# Altium schematic symbol library Passives.SchLib: 279 symbols (part 8 of 10)
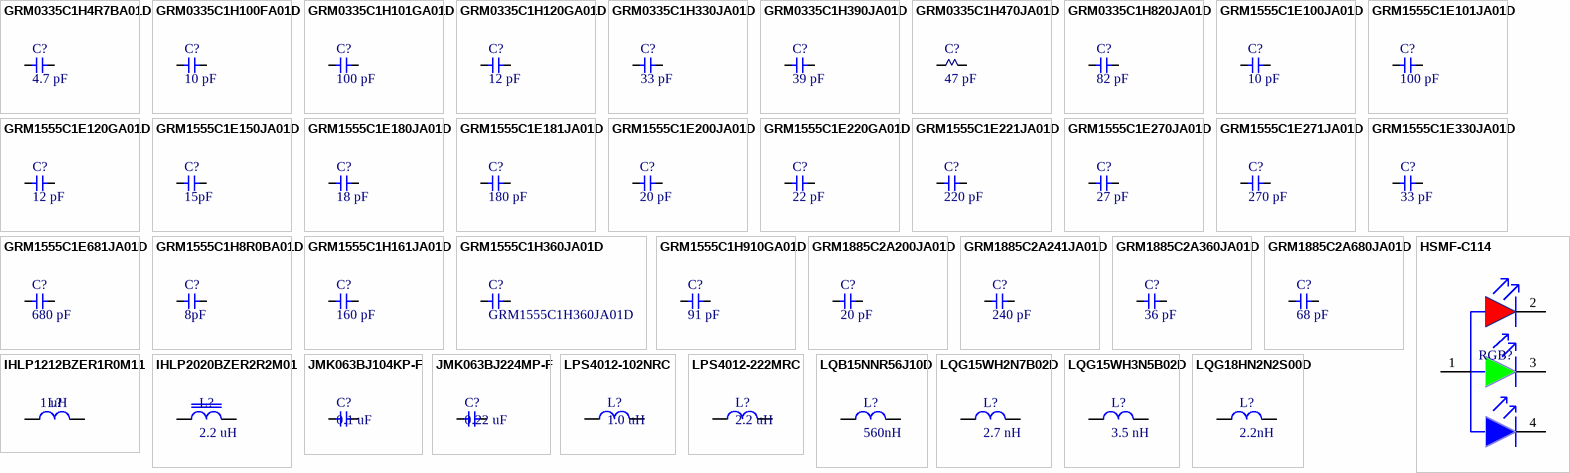
[diagram p14: symbols GRM0335C1H4R7BA01D to LQG18HN2N2S00D]

## GRM1555C1E220GA01D
designator C?, comment 22 pF
CAP CER 22PF 25V NP0 0402; Manufacturer: Murata Electronics North America; Manufacturer Part Number: GRM1555C1E220GA01D; Tolerance: ±2%; Temperature Coefficient: C0G, NP0; Supplier 1: Digi-Key; RoHS: RoHS Compliant; Category: Capacitors; Stock 1: 164846; Pricing 1: 1=0.1, 10=0.043, 50=0.0234, 100=0.0198, 250=0.0162, 500=0.01386, 1000=0.0108, 5000=0.009 (USD); Packaging: Digi-Reel®; Part Status: Active; Capacitance: 22pF; Voltage - Rated: 25V; Operating Temperature: -55°C ~ 125°C; Features: -; Ratings: -; Applications: General Purpose; Mounting Type: Surface Mount, MLCC; Package / Case: 0402 (1005 Metric); Size / Dimension: 0.039" L x 0.020" W (1.00mm x 0.50mm); Height - Seated (Max): -; Thickness (Max): 0.022" (0.55mm); Lead Spacing: -; Lead Style: -; ComponentLink1URL: http://www.murata.com/~/media/webrenewal/support/library/catalog/products/capacitor/mlcc/c02e.ashx; ComponentLink1Description: http://www.murata.com/~/media/webrenewal/support/library/catalog/products/capacitor/mlcc/c02e.ashx; Supplier Part Number 1: 490-8173-6-ND; Value: 22 pF
footprint CAPC1005X05N (Chip Capacitor, 2-Leads, Body 1.00x0.50mm, IPC Medium Density)
signal-integrity model Model Name (Model Description)
pins: 1, 2

## GRM1555C1E221JA01D
designator C?, comment 220 pF
CAP CER 220PF 25V C0G/NP0 0402; Manufacturer: Murata Electronics North America; Manufacturer Part Number: GRM1555C1E221JA01D; Tolerance: ±5%; Temperature Coefficient: C0G, NP0; Notification: Current market demand for these product types have resulted in fluctuating and extending lead times. Lead times may differ.; Supplier 1: Digi-Key; RoHS: RoHS Compliant; Category: Capacitors; Stock: 1677; Pricing: 1=0.1, 10=0.062, 100=0.0275, 500=0.01964, 1000=0.01543, 2500=0.01403, 5000=0.01291 (USD); Packaging: Digi-Reel®; Part Status: Active; Voltage - Rated: 25V; Operating Temperature: -55°C ~ 125°C; Features: -; Ratings: -; Applications: General Purpose; Mounting Type: Surface Mount, MLCC; Package / Case: 0402 (1005 Metric); Size / Dimension: 0.039" L x 0.020" W (1.00mm x 0.50mm); Height - Seated (Max): -; Thickness (Max): 0.022" (0.55mm); Lead Spacing: -; Lead Style: -; ComponentLink1URL: https://www.murata.com/~/media/webrenewal/support/library/catalog/products/capacitor/mlcc/c02e.ashx; ComponentLink1Description: https://www.murata.com/~/media/webrenewal/support/library/catalog/products/capacitor/mlcc/c02e.ashx; Supplier Part Number 1: 490-8174-6-ND; Value: 220 pF
footprint CAPC1005X05N (Chip Capacitor, 2-Leads, Body 1.00x0.50mm, IPC Medium Density)
pins: 1, 2

## GRM1555C1E270JA01D
designator C?, comment 27 pF
CAP CER 27PF 25V C0G/NP0 0402; Manufacturer: Murata Electronics North America; Manufacturer Part Number: GRM1555C1E270JA01D; Tolerance: ±5%; Temperature Coefficient: C0G, NP0; Notification: Current market demand for these product types have resulted in fluctuating and extending lead times. Lead times may differ.; Supplier 1: Digi-Key; RoHS: RoHS Compliant; Category: Capacitors; Stock: 40634; Pricing: 1=0.1, 10=0.036, 100=0.0162, 500=0.0116, 1000=0.00911, 2500=0.00828, 5000=0.00762 (USD); Packaging: Digi-Reel®; Part Status: Active; Voltage - Rated: 25V; Operating Temperature: -55°C ~ 125°C; Features: -; Ratings: -; Applications: General Purpose; Mounting Type: Surface Mount, MLCC; Package / Case: 0402 (1005 Metric); Size / Dimension: 0.039" L x 0.020" W (1.00mm x 0.50mm); Height - Seated (Max): -; Thickness (Max): 0.022" (0.55mm); Lead Spacing: -; Lead Style: -; ComponentLink1URL: https://www.murata.com/~/media/webrenewal/support/library/catalog/products/capacitor/mlcc/c02e.ashx; ComponentLink1Description: https://www.murata.com/~/media/webrenewal/support/library/catalog/products/capacitor/mlcc/c02e.ashx; Supplier Part Number 1: 490-6176-6-ND; Value: 27 pF
footprint CAPC1005X05N (Chip Capacitor, 2-Leads, Body 1.00x0.50mm, IPC Medium Density)
pins: 1, 2

## GRM1555C1E271JA01D
designator C?, comment 270 pF
CAP CER 270PF 25V C0G/NP0 0402; Manufacturer: Murata Electronics North America; Manufacturer Part Number: GRM1555C1E271JA01D; Tolerance: ±5%; Temperature Coefficient: C0G, NP0; Notification: Current market demand for these product types have resulted in fluctuating and extending lead times. Lead times may differ.; Supplier 1: Digi-Key; RoHS: RoHS Compliant; Category: Capacitors; Stock: 20536; Pricing: 1=0.13, 10=0.092, 100=0.0409, 500=0.02918, 1000=0.02293, 2500=0.02084, 5000=0.01918 (USD); Packaging: Digi-Reel®; Part Status: Active; Voltage - Rated: 25V; Operating Temperature: -55°C ~ 125°C; Features: -; Ratings: -; Applications: General Purpose; Mounting Type: Surface Mount, MLCC; Package / Case: 0402 (1005 Metric); Size / Dimension: 0.039" L x 0.020" W (1.00mm x 0.50mm); Height - Seated (Max): -; Thickness (Max): 0.022" (0.55mm); Lead Spacing: -; Lead Style: -; ComponentLink1URL: https://www.murata.com/~/media/webrenewal/support/library/catalog/products/capacitor/mlcc/c02e.ashx; ComponentLink1Description: https://www.murata.com/~/media/webrenewal/support/library/catalog/products/capacitor/mlcc/c02e.ashx; Supplier Part Number 1: 490-11365-6-ND; Value: 270 pF
footprint CAPC1005X05N (Chip Capacitor, 2-Leads, Body 1.00x0.50mm, IPC Medium Density)
pins: 1, 2

## GRM1555C1E330JA01D
designator C?, comment 33 pF
CAP CER 33PF 25V NP0 0402; Manufacturer: Murata Electronics North America; Manufacturer Part Number: GRM1555C1E330JA01D; Tolerance: ±5%; Temperature Coefficient: C0G, NP0; Supplier 1: Digi-Key; RoHS: RoHS Compliant; Category: Capacitors; Stock 1: 366356; Pricing 1: 1=0.1, 10=0.028, 50=0.015, 100=0.0127, 250=0.01036, 500=0.00886, 1000=0.0069, 5000=0.00575 (USD); Packaging: Digi-Reel®; Part Status: Active; Capacitance: 33pF; Voltage - Rated: 25V; Operating Temperature: -55°C ~ 125°C; Features: -; Ratings: -; Applications: General Purpose; Mounting Type: Surface Mount, MLCC; Package / Case: 0402 (1005 Metric); Size / Dimension: 0.039" L x 0.020" W (1.00mm x 0.50mm); Height - Seated (Max): -; Thickness (Max): 0.022" (0.55mm); Lead Spacing: -; Lead Style: -; ComponentLink1URL: http://www.murata.com/~/media/webrenewal/support/library/catalog/products/capacitor/mlcc/c02e.ashx; ComponentLink1Description: http://www.murata.com/~/media/webrenewal/support/library/catalog/products/capacitor/mlcc/c02e.ashx; Supplier Part Number 1: 490-6177-6-ND; Value: 33 pF
signal-integrity model Model Name (Model Description)
footprint CAPC1005X05N (Chip Capacitor, 2-Leads, Body 1.00x0.50mm, IPC Medium Density)
pins: 1, 2

## GRM1555C1E681JA01D
designator C?, comment 680 pF
CAP CER 680PF 25V C0G/NP0 0402; Manufacturer: Murata Electronics North America; Manufacturer Part Number: GRM1555C1E681JA01D; Tolerance: ±5%; Temperature Coefficient: C0G, NP0; Notification: Current market demand for these product types have resulted in fluctuating and extending lead times. Lead times may differ.; Supplier 1: Digi-Key; RoHS: RoHS Compliant; Category: Capacitors; Stock: 111030; Pricing: 1=0.13, 10=0.097, 100=0.043, 500=0.03072, 1000=0.02413, 2500=0.02194, 5000=0.02018 (USD); Packaging: Digi-Reel®; Part Status: Active; Voltage - Rated: 25V; Operating Temperature: -55°C ~ 125°C; Features: -; Ratings: -; Applications: General Purpose; Mounting Type: Surface Mount, MLCC; Package / Case: 0402 (1005 Metric); Size / Dimension: 0.039" L x 0.020" W (1.00mm x 0.50mm); Height - Seated (Max): -; Thickness (Max): 0.022" (0.55mm); Lead Spacing: -; Lead Style: -; ComponentLink1URL: https://www.murata.com/~/media/webrenewal/support/library/catalog/products/capacitor/mlcc/c02e.ashx; ComponentLink1Description: https://www.murata.com/~/media/webrenewal/support/library/catalog/products/capacitor/mlcc/c02e.ashx; Supplier Part Number 1: 490-6182-6-ND; Value: 680 pF
footprint CAPC1005X05N (Chip Capacitor, 2-Leads, Body 1.00x0.50mm, IPC Medium Density)
pins: 1, 2

## GRM1555C1H8R0BA01D
designator C?, comment 8pF
Multilayer Ceramic Capacitors MLCC - SMD/SMT 0402 8.0pF 50volts C0G +/-0.05pF; Manufacturer: Murata; Manufacturer Part Number: GRM1555C1H8R0BA01D; Voltage Rating: 50V; Supplier: Digi-Key; Supplier Part Number: 490-8230-1-ND; RoHS: Yes; Category: Ceramic Capacitors; Stock: 671988; Pricing: 1=0,1, 10=0,051, 50=0,0278, 100=0,0227, 500=0,01624, 1000=0,01276, 2500=0,0116, 5000=0,01067 (USD); Mounting Technology: Surface Mount; Case/Package: 0402; Case Code (Metric): 1005; Case Code (Imperial): 0402; Min Operating Temperature: -55°C; Max Operating Temperature: 125°C; Value: 8pF; Package Quantity: 1; Packaging: Tape and Reel; Series: GRM; Termination: SMD/SMT; Voltage Rating (DC): 50V; Dielectric: C0G; Construction: Flat; Length: 1mm; Width: 0.02inch; Height: 0.5mm; Thickness: 0.022inch; Depth: 0.5mm; Radiation Hardening: No; RoHS Compliant: Yes; Lead Free: Lead Free; ComponentLink1URL: https://datasheet.ciiva.com/18184/getdatasheetpartid-319021-18184500.pdf?src-supplier=Verical; ComponentLink1Description: https://datasheet.ciiva.com/18184/getdatasheetpartid-319021-18184500.pdf?src-supplier=Verical; ComponentLink2URL: https://datasheet.ciiva.com/6263/grm1555c1h820ga01-01-6263780.pdf?src-supplier=Digi-Key; ComponentLink2Description: https://datasheet.ciiva.com/6263/grm1555c1h820ga01-01-6263780.pdf?src-supplier=Digi-Key; ComponentLink3URL: https://datasheet.ciiva.com/5432/product-5432205.pdf?src-supplier=Mouser; ComponentLink3Description: https://datasheet.ciiva.com/5432/product-5432205.pdf?src-supplier=Mouser; ComponentLink4URL: https://datasheet.ciiva.com/11610/product-11610151.pdf?src-supplier=Avnet; ComponentLink4Description: https://datasheet.ciiva.com/11610/product-11610151.pdf?src-supplier=Avnet; ComponentLink5URL: https://datasheet.ciiva.com/16495/c02e-16495287.pdf?src-supplier=Future+Electronics; ComponentLink5Description: https://datasheet.ciiva.com/16495/c02e-16495287.pdf?src-supplier=Future+Electronics; ComponentLink6URL: https://datasheet.ciiva.com/5442/product-5442458.pdf?src-supplier=Mouser; ComponentLink6Description: https://datasheet.ciiva.com/5442/product-5442458.pdf?src-supplier=Mouser; Supplier 1: Mouser; Supplier Part Number 1: 81-GRM1555C1H8R0BA1D; Supplier 2: Digikey; Supplier Part Number 2: 490-8230-1-ND; Supplier 3: Digikey; Supplier Part Number 3: 490-8230-6-ND
footprint CAPC1005X05N (Chip Capacitor, 2-Leads, Body 1.00x0.50mm, IPC Medium Density)
pins: 1, 2

## GRM1555C1H161JA01D
designator C?, comment 160 pF
CAP CER 160PF 50V C0G/NP0 0402; Manufacturer: Murata; Manufacturer Part Number: GRM1555C1H161JA01D; Supplier: Arrow Electronics; Supplier Part Number: GRM1555C1H161JA01D; RoHS: Yes; Category: Ceramic Capacitors; Stock: 35570; Pricing: 1=0,0886, 10=0,036, 25=0,0342, 100=0,021, 250=0,0208, 500=0,0197, 1000=0,014, 3000=0,0133, 6000=0,0107, 15000=0,0106, 30000=0,0096 (USD); ComponentLink1URL: https://datasheet.ciiva.com/132/product-132086.pdf?src-supplier=Digi-Key; ComponentLink1Description: https://datasheet.ciiva.com/132/product-132086.pdf?src-supplier=Digi-Key; ComponentLink2URL: https://datasheet.ciiva.com/132/partnumbering-e-01-132087.pdf?src-supplier=Digi-Key; ComponentLink2Description: https://datasheet.ciiva.com/132/partnumbering-e-01-132087.pdf?src-supplier=Digi-Key; ComponentLink3URL: https://datasheet.ciiva.com/132/partnumbering-e-01-132088.pdf?src-supplier=Digi-Key; ComponentLink3Description: https://datasheet.ciiva.com/132/partnumbering-e-01-132088.pdf?src-supplier=Digi-Key; ComponentLink4URL: https://datasheet.ciiva.com/11463/product-11463834.pdf?src-supplier=Avnet; ComponentLink4Description: https://datasheet.ciiva.com/11463/product-11463834.pdf?src-supplier=Avnet; Supplier 1: Arrow Electronics; Supplier Part Number 1: GRM1555C1H161JA01D; Value: 160 pF
footprint CAPC1005X05N (Chip Capacitor, 2-Leads, Body 1.00x0.50mm, IPC Medium Density)
pins: 1, 2

## GRM1555C1H360JA01D
designator C?
CAP CER 36PF 50V C0G/NP0 0402; Manufacturer: Murata; Supplier: Digi-Key; Supplier Part Number: 490-5937-1-ND; Manufacturer Part Number: GRM1555C1H360JA01D; RoHS: Yes; Category: Ceramic Capacitors; Stock: 136514; Pricing: 1=0,1, 10=0,055, 50=0,03, 100=0,0245, 500=0,01752, 1000=0,01376, 2500=0,01251, 5000=0,01151 (USD); ComponentLink1URL: https://datasheet.ciiva.com/11606/product-11606604.pdf?src-supplier=Avnet; ComponentLink1Description: https://datasheet.ciiva.com/11606/product-11606604.pdf?src-supplier=Avnet; ComponentLink2URL: https://datasheet.ciiva.com/6263/partnumbering-e-01-6263915.pdf?src-supplier=Digi-Key; ComponentLink2Description: https://datasheet.ciiva.com/6263/partnumbering-e-01-6263915.pdf?src-supplier=Digi-Key; ComponentLink3URL: https://datasheet.ciiva.com/6263/partnumbering-e-01-6263917.pdf?src-supplier=Digi-Key; ComponentLink3Description: https://datasheet.ciiva.com/6263/partnumbering-e-01-6263917.pdf?src-supplier=Digi-Key; ComponentLink4URL: https://datasheet.ciiva.com/6263/partnumbering-e-01-6263919.pdf?src-supplier=Digi-Key; ComponentLink4Description: https://datasheet.ciiva.com/6263/partnumbering-e-01-6263919.pdf?src-supplier=Digi-Key; Supplier 1: Digi-Key; Supplier Part Number 1: 490-5937-1-ND; Value: 36 pF
footprint CAPC1005X05N (Chip Capacitor, 2-Leads, Body 1.00x0.50mm, IPC Medium Density)
pins: 1, 2

## GRM1555C1H910GA01D
designator C?, comment 91 pF
Multilayer Ceramic Capacitors MLCC - SMD/SMT 0402 91pF 50volts C0G 2%; Manufacturer: Murata; Manufacturer Part Number: GRM1555C1H910GA01D; Voltage Rating: 50V; Supplier 1: Digi-Key; Supplier Part Number 1: 490-11408-1-ND; Stock 1: 26252; Pricing 1: 1 = 0.12000, 10 = 0.08600, 100 = 0.04050, 500 = 0.02842, 1000 = 0.02353, 2500 = 0.02190, 5000 = 0.02004 (USD); RoHS: Yes; Mount: Surface Mount; Case/Package: 0402; Case Code (Metric): 1005; Case Code (Imperial): 0402; Min Operating Temperature: -55°C; Max Operating Temperature: 125°C; Capacitance: 91pF; Tolerance: 2%; Packaging: Tape and Reel; Package Quantity: 10000; Dielectric: C0G; Voltage Rating (DC): 50V; Termination: SMD/SMT; Length: 1mm; Height: 0.5mm; Width: 0.02inch; Thickness: 0.022inch; Depth: 0.5mm; Radiation Hardening: No; ComponentLink1URL: https://datasheet.ciiva.com/11617/product-11617893.pdf?src-supplier=Avnet; ComponentLink1Description: https://datasheet.ciiva.com/11617/product-11617893.pdf?src-supplier=Avnet; ComponentLink2URL: https://datasheet.ciiva.com/6270/grm1555c1h8r5wa01-01-6270700.pdf?src-supplier=Digi-Key; ComponentLink2Description: https://datasheet.ciiva.com/6270/grm1555c1h8r5wa01-01-6270700.pdf?src-supplier=Digi-Key; Value: 91 pF
footprint CAPC1005X05N (Chip Capacitor, 2-Leads, Body 1.00x0.50mm, IPC Medium Density)
pins: 1, 2

## GRM1885C2A200JA01D
designator C?, comment 20 pF
Cap Ceramic 20pF 100V C0G 5% SMD 0603 125C Paper T/R; Manufacturer: Murata; Manufacturer Part Number: GRM1885C2A200JA01D; Supplier: Mouser; Supplier Part Number: 81-GRM1885C2A200JA1D; RoHS: Yes; Category: Ceramic Capacitors; Stock: 37198; Pricing: 1=0.11, 10=0.052, 50=0.052, 100=0.031, 1000=0.023, 10000=0.017 (USD); ComponentLink1URL: https://datasheet.ciiva.com/132/product-132944.pdf?src-supplier=Digikey; ComponentLink1Description: https://datasheet.ciiva.com/132/product-132944.pdf?src-supplier=Digikey; ComponentLink2URL: https://datasheet.ciiva.com/132/partnumbering-e-01-132943.pdf?src-supplier=Digikey; ComponentLink2Description: https://datasheet.ciiva.com/132/partnumbering-e-01-132943.pdf?src-supplier=Digikey; ComponentLink3URL: https://datasheet.ciiva.com/132/partnumbering-e-01-132945.pdf?src-supplier=Digikey; ComponentLink3Description: https://datasheet.ciiva.com/132/partnumbering-e-01-132945.pdf?src-supplier=Digikey; ComponentLink4URL: https://datasheet.ciiva.com/11608/product-11608917.pdf?src-supplier=Avnet; ComponentLink4Description: https://datasheet.ciiva.com/11608/product-11608917.pdf?src-supplier=Avnet; Supplier 1: Mouser; Supplier Part Number 1: 81-GRM1885C2A200JA1D; Supplier 2: Digikey; Supplier Part Number 2: 490-1334-6-ND; Supplier 3: Digikey; Supplier Part Number 3: 490-1334-2-ND; Value: 20 pF
footprint CAPC1610X05N (Chip Capacitor, 2-Leads, Body 1.60x1.00mm, IPC Medium Density)
pins: 1, 2

## GRM1885C2A241JA01D
designator C?, comment 240 pF
CAP CER 240PF 100V C0G/NP0 0603; Manufacturer: Murata; Manufacturer Part Number: GRM1885C2A241JA01D; Tolerance: 5%; Dielectric: C0G; Supplier: Arrow Electronics; Supplier Part Number: GRM1885C2A241JA01D; RoHS: Yes; Category: Ceramic Capacitors; Stock: 3776; Pricing: 1=0,0867, 10=0,0367, 25=0,0359, 100=0,0214, 250=0,0212, 500=0,0202, 1000=0,0187, 3000=0,0173 (USD); Mounting Technology: Surface Mount; Case/Package: 0603; Case Code (Metric): 1608; Case Code (Imperial): 0603; Min Operating Temperature: -55°C; Max Operating Temperature: 125°C; Value: 240 pF; Voltage Rating (DC): 100V; Package Quantity: 1; Voltage Rating: 100V; Packaging: Tape and Reel; Termination: SMD/SMT; Series: GRM; Construction: Flat; Length: 1.6mm; Width: 0.031inch; Height: 0.8mm; Thickness: 0.035inch; Depth: 0.8mm; Radiation Hardening: No; RoHS Compliant: Yes; Lead Free: Lead Free; ComponentLink1URL: https://datasheet.ciiva.com/133/product-133664.pdf?src-supplier=Digi-Key; ComponentLink1Description: https://datasheet.ciiva.com/133/product-133664.pdf?src-supplier=Digi-Key; ComponentLink2URL: https://datasheet.ciiva.com/133/partnumbering-e-01-133665.pdf?src-supplier=Digi-Key; ComponentLink2Description: https://datasheet.ciiva.com/133/partnumbering-e-01-133665.pdf?src-supplier=Digi-Key; ComponentLink3URL: https://datasheet.ciiva.com/133/partnumbering-e-01-133663.pdf?src-supplier=Digi-Key; ComponentLink3Description: https://datasheet.ciiva.com/133/partnumbering-e-01-133663.pdf?src-supplier=Digi-Key; Supplier 1: Arrow Electronics; Supplier Part Number 1: GRM1885C2A241JA01D
footprint CAPC1610X05N (Chip Capacitor, 2-Leads, Body 1.60x1.00mm, IPC Medium Density)
pins: 1, 2

## GRM1885C2A360JA01D
designator C?, comment 36 pF
CAP CER 36PF 100V C0G/NP0 0603; Manufacturer: Murata; Manufacturer Part Number: GRM1885C2A360JA01D; Supplier: Arrow Electronics; Supplier Part Number: GRM1885C2A360JA01D; RoHS: Yes; Category: Ceramic Capacitors; Stock: 1980; Pricing: 1=0,0995, 10=0,0449, 25=0,0435, 100=0,027, 250=0,0256, 500=0,0251, 1000=0,0209 (USD); ComponentLink1URL: https://datasheet.ciiva.com/132/partnumbering-e-01-132982.pdf?src-supplier=Digi-Key; ComponentLink1Description: https://datasheet.ciiva.com/132/partnumbering-e-01-132982.pdf?src-supplier=Digi-Key; ComponentLink2URL: https://datasheet.ciiva.com/132/partnumbering-e-01-132983.pdf?src-supplier=Digi-Key; ComponentLink2Description: https://datasheet.ciiva.com/132/partnumbering-e-01-132983.pdf?src-supplier=Digi-Key; ComponentLink3URL: https://datasheet.ciiva.com/132/partnumbering-e-01-132984.pdf?src-supplier=Digi-Key; ComponentLink3Description: https://datasheet.ciiva.com/132/partnumbering-e-01-132984.pdf?src-supplier=Digi-Key; Supplier 1: Arrow Electronics; Supplier Part Number 1: GRM1885C2A360JA01D; Value: 36 pF
footprint CAPC1610X05N (Chip Capacitor, 2-Leads, Body 1.60x1.00mm, IPC Medium Density)
pins: 1, 2

## GRM1885C2A680JA01D
designator C?, comment 68 pF
CAP CER 68PF 100V C0G/NP0 0603; Manufacturer: Murata; Manufacturer Part Number: GRM1885C2A680JA01D; Supplier: Digikey; Supplier Part Number: 490-1347-6-ND; RoHS: Yes; Category: Ceramic Capacitors; Stock: 89299; Pricing: 1=0.12, 10=0.079, 50=0.047, 100=0.037, 500=0.02734, 1000=0.02263 (USD); ComponentLink1URL: https://datasheet.ciiva.com/3778/9845grm1885c2a680ja0123-3778253.pdf?src-supplier=Arrow+Electronics; ComponentLink1Description: https://datasheet.ciiva.com/3778/9845grm1885c2a680ja0123-3778253.pdf?src-supplier=Arrow+Electronics; ComponentLink2URL: https://datasheet.ciiva.com/132/product-132242.pdf?src-supplier=Digikey; ComponentLink2Description: https://datasheet.ciiva.com/132/product-132242.pdf?src-supplier=Digikey; ComponentLink3URL: https://datasheet.ciiva.com/132/partnumbering-e-01-132243.pdf?src-supplier=Digikey; ComponentLink3Description: https://datasheet.ciiva.com/132/partnumbering-e-01-132243.pdf?src-supplier=Digikey; ComponentLink4URL: https://datasheet.ciiva.com/132/partnumbering-e-01-132244.pdf?src-supplier=Digikey; ComponentLink4Description: https://datasheet.ciiva.com/132/partnumbering-e-01-132244.pdf?src-supplier=Digikey; ComponentLink5URL: https://datasheet.ciiva.com/11463/product-11463934.pdf?src-supplier=Avnet; ComponentLink5Description: https://datasheet.ciiva.com/11463/product-11463934.pdf?src-supplier=Avnet; ComponentLink6URL: https://datasheet.ciiva.com/16214/product-16214728.pdf?src-supplier=Future+Electronics; ComponentLink6Description: https://datasheet.ciiva.com/16214/product-16214728.pdf?src-supplier=Future+Electronics; Supplier 1: Mouser; Supplier Part Number 1: 81-GRM1885C2A680JA01; Supplier 2: Digikey; Supplier Part Number 2: 490-1347-6-ND; Value: 68 pF
footprint CAPC1610X05N (Chip Capacitor, 2-Leads, Body 1.60x1.00mm, IPC Medium Density)
pins: 1, 2

## HSMF-C114
designator RGB?  (value not drawn)
LED Tri-Color Blue/Green/Red 468nm/523nm/637nm 4-Pin Chip LED T/R; Manufacturer: Broadcom Avago; Lens Color: White; Forward Voltage: 3.4V; Viewing Angle: 145°; Wavelength: 470nm; Luminous Intensity: 70mcd; Lens Style: Diffused,Rectangular; Forward Current: 20mA; Lens Transparency: Diffused; Number of Elements: 3; Reverse Voltage: 5V; Power Rating: 78mW; Supplier 1: Digi-Key; Supplier Part Number 1: 516-1795-1-ND; Manufacturer Part Number: HSMF-C114; RoHS: Yes; Category: LEDs; Stock 1: 38299; Pricing 1: 1=1.78000, 10=1.12500, 100=0.83250, 500=0.76500, 1000=0.63000, 2000=0.59850 (USD); Mount: Surface Mount; Case/Package: 0606; Number of Pins: 4; Color: Blue,Green,Red; Case Code (Metric): 1616; Case Code (Imperial): 0606; Min Operating Temperature: -40°C; Max Operating Temperature: 85°C; Packaging: Tape and Reel; Package Quantity: 4000; Dominant Wavelength: 470nm; Test Current: 20mA; Number of LEDs: 3; Length: 1.6mm; Width: 1.5mm; Height: 0.35mm; Depth: 1.6mm; Radiation Hardening: No; REACH SVHC: No SVHC; Lead Free: Lead Free
footprint CAC-90P150X160-4N (Chip Array, Concave, 4-Leads, Pitch 0.90mm,  Body 1.50x1.60mm,  IPC Medium Density)
pins: 1 COMMON ANODE, 2 RED C, 3 GREEN C, 4 BLUE C

## IHLP1212BZER1R0M11
designator L?  value 1 uH  (hidden comment: IHLP1212BZER1R0M11)
FIXED IND 1UH 5A 24 MOHM SMD; Manufacturer: Vishay Dale; Type: Molded; Inductance: 1µH; Tolerance: ±20%; Current - Saturation: 4.5A; Shielding: Shielded; DC Resistance (DCR): 24 mOhm Max; Frequency - Test: 100kHz; Supplier 1: Digi-Key; Supplier Part Number 1: 541-1319-6-ND; Manufacturer Part Number: IHLP1212BZER1R0M11; RoHS: RoHS Compliant; Category: Inductors, Coils, Chokes; Stock 1: 28167; Pricing 1: 1=1.26, 10=1.181, 25=1.1024, 50=0.945, 100=0.8977, 250=0.81896, 500=0.72446, 1000=0.66147 (EUR); Packaging: Digi-Reel®; Material - Core: -; Current Rating: 5A; Q @ Freq: -; Frequency - Self Resonant: -; Operating Temperature: -55°C ~ 125°C; Mounting Type: Surface Mount; Package / Case: Nonstandard; Size / Dimension: 0.144" L x 0.118" W (3.65mm x 3.00mm); Height - Seated (Max): 0.079" (2.00mm); Supplier Device Package: -; ComponentLink1URL: http://www.vishay.com/docs/34289/lp12bz11.pdf; ComponentLink1Description: http://www.vishay.com/docs/34289/lp12bz11.pdf
footprint INDM3630X20N (Molded Inductor, 2-Leads, Body 3.65x3.00mm, IPC Medium Density)
pins: 1, 2

## IHLP2020BZER2R2M01
designator L?, comment 2.2 uH
FIXED IND 2.2UH 4.2A 50.1 MOHM; Manufacturer: Vishay Dale; Manufacturer Part Number: IHLP2020BZER2R2M01; Type: Molded; Inductance: 2.2µH; Tolerance: ±20%; Current - Saturation: 9.5A; Shielding: Shielded; DC Resistance (DCR): 50.1 mOhm Max; Frequency - Self Resonant: 39MHz; Frequency - Test: 100kHz; Supplier 1: Digi-Key; RoHS: RoHS Compliant; Category: Inductors, Coils, Chokes; Stock 1: 3460; Pricing 1: 1=1.81, 10=1.693, 25=1.572, 50=1.3784, 100=1.2575, 250=1.1124, 500=1.06402, 1000=0.99148 (GBP); Packaging: Digi-Reel®; Part Status: Active; Material - Core: -; Current Rating: 4.2A; Q @ Freq: -; Ratings: -; Operating Temperature: -55°C ~ 125°C; Mounting Type: Surface Mount; Package / Case: Nonstandard; Size / Dimension: 0.216" L x 0.204" W (5.49mm x 5.18mm); Height - Seated (Max): 0.079" (2.00mm); ComponentLink1URL: http://www.vishay.com/docs/34253/lp20bz01.pdf; ComponentLink1Description: http://www.vishay.com/docs/34253/lp20bz01.pdf; Supplier Part Number 1: 541-1088-6-ND; Value: 2.2 uH
footprint INDM5252X20N (Molded Inductor, 2-Leads, Body 5.18x5.18mm, IPC Medium Density)
signal-integrity model Model Name (Model Description)
pins: 1, 2

## JMK063BJ104KP-F
designator C?, comment 0.1 uF
CAP CER 0.1UF 6.3V X5R 0201; Manufacturer: Taiyo Yuden; Manufacturer Part Number: JMK063BJ104KP-F; Capacitance: 0.10µF; Tolerance: ±10%; Supplier 1: Digi-Key; RoHS: RoHS Compliant; Category: Capacitors; Stock 1: 250503; Pricing 1: 1=0.12, 10=0.075, 50=0.0358, 100=0.0269, 250=0.01944, 500=0.01434, 1000=0.00971, 5000=0.00747 (GBP); Packaging: Digi-Reel®; Part Status: Active; Voltage - Rated: 6.3V; Temperature Coefficient: X5R; Mounting Type: Surface Mount, MLCC; Operating Temperature: -55°C ~ 85°C; Applications: General Purpose; Ratings: -; Package / Case: 0201 (0603 Metric); Size / Dimension: 0.024" L x 0.012" W (0.60mm x 0.30mm); Height - Seated (Max): -; Thickness (Max): 0.013" (0.33mm); Lead Spacing: -; Features: -; Lead Style: -; ComponentLink1URL: http://ds.yuden.co.jp/TYCOMPAS/ut/detail.do?productNo=JMK063BJ104KP-F&fileName=JMK063BJ104KP-F_SS&mode=specSheetDownload; ComponentLink1Description: http://ds.yuden.co.jp/TYCOMPAS/ut/detail.do?productNo=JMK063BJ104KP-F&fileName=JMK063BJ104KP-F_SS&mode=specSheetDownload; Supplier Part Number 1: 587-1183-6-ND; Value: 0.1 uF
footprint CAPC0603X03N (Chip Capacitor, 2-Leads, Body 0.60x0.30mm, IPC Medium Density)
signal-integrity model Model Name (Model Description)
pins: 1, 2

## JMK063BJ224MP-F
designator C?, comment 0.22 uF
CAP CER 0.22UF 6.3V X5R 0201; Manufacturer: Taiyo Yuden; Manufacturer Part Number: JMK063BJ224MP-F; Capacitance: 0.22µF; Tolerance: ±20%; Supplier 1: Digi-Key; RoHS: RoHS Compliant; Category: Capacitors; Stock 1: 1199499; Pricing 1: 1=0.13, 10=0.086, 50=0.0412, 100=0.0309, 250=0.02236, 500=0.0165, 1000=0.01117, 5000=0.00859 (GBP); Packaging: Digi-Reel®; Part Status: Active; Voltage - Rated: 6.3V; Temperature Coefficient: X5R; Mounting Type: Surface Mount, MLCC; Operating Temperature: -55°C ~ 85°C; Applications: General Purpose; Ratings: -; Package / Case: 0201 (0603 Metric); Size / Dimension: 0.024" L x 0.012" W (0.60mm x 0.30mm); Height - Seated (Max): -; Thickness (Max): 0.013" (0.33mm); Lead Spacing: -; Features: -; Lead Style: -; ComponentLink1URL: http://ds.yuden.co.jp/TYCOMPAS/ut/detail.do?productNo=JMK063BJ224MP-F&fileName=JMK063BJ224MP-F_SS&mode=specSheetDownload; ComponentLink1Description: http://ds.yuden.co.jp/TYCOMPAS/ut/detail.do?productNo=JMK063BJ224MP-F&fileName=JMK063BJ224MP-F_SS&mode=specSheetDownload; Supplier Part Number 1: 587-1819-6-ND; Value: 0.22 uF
footprint CAPC0603X03N (Chip Capacitor, 2-Leads, Body 0.60x0.30mm, IPC Medium Density)
signal-integrity model Model Name (Model Description)
pins: 1, 2

## LPS4012-102NRC
designator L?, comment 1.0 uH
Fixed Inductors LPS4012 Low Profile 1.0uH 2.4A 30% SMD; Manufacturer: Coilcraft; Manufacturer Part Number: LPS4012-102NRC; Core Material: Ferrite; Inductance: 1 uH; Maximum DC Current: 3 A; Maximum DC Resistance: 60 mOhms; Self Resonant Frequency: 180 MHz; Shielding: Shielded; Type: Shielded Power Inductor; Test Frequency: 100 kHz; Supplier 1: Mouser; RoHS: RoHS Compliant; Category: Fixed Inductors; Stock 1: 1022; Pricing 1: 1=1.14, 10=1.00, 50=0.888, 100=0.840, 200=0.778, 500=0.598, 1000=0.547, 2000=0.506 (USD); Height: 1.1 mm; Length: 4 mm; Operating Temperature Range: - 40 C to + 85 C; Packaging: Reel; Product: Power Inductors; Series: LPS4012; Termination Style: SMD/SMT; Tolerance: 30 %; Width: 4 mm; Brand: Coilcraft; Mounting Style: SMD/SMT; Standard Pack Qty: 1000; RoHS - Mouser: Y; Minimum Order Quantity: 1; Reeling: True; ComponentLink1URL: http://www.mouser.com/ds/2/597/lps4012-270701.pdf; ComponentLink1Description: http://www.mouser.com/ds/2/597/lps4012-270701.pdf; Supplier Part Number 1: 994-LPS4012-102NRC; Value: 1.0 uH
footprint COILCRAFT_LPS4012 (LPS4012 Series Low Profile  Shielded Power Inductors)
signal-integrity model Model Name (Model Description)
pins: 1, 2

## LPS4012-222MRC
designator L?, comment 2.2 uH
Fixed Inductors LPS4012 Low Profile 2.2uH 1.75A 20% SMD; Manufacturer: Coilcraft; Manufacturer Part Number: LPS4012-222MRC; Core Material: Ferrite; Maximum DC Current: 2.5 A; Maximum DC Resistance: 100 mOhms; Self Resonant Frequency: 115 MHz; Shielding: Shielded; Type: Shielded Power Inductor; Test Frequency: 100 kHz; Supplier 1: Mouser; RoHS: RoHS Compliant; Category: Fixed Inductors; Stock 1: 555; Pricing 1: 1=1.14, 10=1.00, 50=0.888, 100=0.840, 200=0.778, 500=0.598, 1000=0.547, 2000=0.506 (USD); Height: 1.1 mm; Inductance: 2.2 uH; Length: 4 mm; Operating Temperature Range: - 40 C to + 85 C; Packaging: Reel; Product: Power Inductors; Series: LPS4012; Termination Style: SMD/SMT; Tolerance: 20 %; Width: 4 mm; Brand: Coilcraft; Mounting Style: SMD/SMT; Standard Pack Qty: 1000; RoHS - Mouser: Y; Minimum Order Quantity: 1; Reeling: True; ComponentLink1URL: http://www.mouser.com/ds/2/597/lps4012-270701.pdf; ComponentLink1Description: http://www.mouser.com/ds/2/597/lps4012-270701.pdf; Supplier Part Number 1: 994-LPS4012-222MRC; Value: 2.2 uH
footprint COILCRAFT_LPS4012 (LPS4012 Series Low Profile  Shielded Power Inductors)
signal-integrity model Model Name (Model Description)
pins: 1, 2

## LQB15NNR56J10D
designator L?, comment 560nH
Ind General Purpose Chip Shielded Multi-Layer 560nH 5% 25MHz 10Q-Factor Ferrite 300mA 0402 Paper T/R; Manufacturer: Murata; Manufacturer Part Number: LQB15NNR56J10D; DC Resistance (DCR): 912.5mR; Self Resonant Frequency: 80MHz; Supplier: Arrow Electronics; Supplier Part Number: LQB15NNR56J10D; RoHS: Yes; Category: Fixed Inductors; Stock: 1187; Pricing: 1=0,0624, 10=0,0432, 25=0,0428, 100=0,0416, 250=0,0404, 500=0,0393, 1000=0,0381 (USD); Mounting Technology: Surface Mount; Case/Package: 0402; Case Code (Metric): 1005; Case Code (Imperial): 0402; Core Material: Ferrite; Min Operating Temperature: -55°C; Max Operating Temperature: 125°C; Packaging: Tape and Reel; Package Quantity: 10000; Value: 560nH; Max DC Current: 300mA; Termination: SMD/SMT; Current Rating: 300mA; Shielding: Shielded; Test Frequency: 25MHz; Tolerance: 5%; Series: LQB15; Length: 0.039inch; Width: 0.5mm; Height: 0.5mm; Height - Seated (Max): 0.022inch; RoHS Compliant: Yes; ComponentLink1URL: https://datasheet.ciiva.com/24066/product-260664-24066509.pdf?src-supplier=Mouser; ComponentLink1Description: https://datasheet.ciiva.com/24066/product-260664-24066509.pdf?src-supplier=Mouser; Supplier 1: Arrow Electronics; Supplier Part Number 1: LQB15NNR56J10D
footprint INDC1005X06N (Chip Inductor, 2-Leads, Body 1.00x0.50mm, IPC Medium Density)
pins: 1, 2

## LQG15WH2N7B02D
designator L?, comment 2.7 nH
Inductor Chip 2.7nH 0.1nH Tolerance 2-Pin 0402 Paper T/R; Manufacturer: Murata; Manufacturer Part Number: LQG15WH2N7B02D; Supplier: Mouser; Supplier Part Number: 81-LQG15WH2N7B02D; RoHS: Yes; Category: Fixed Inductors; Stock: 6000; Pricing: 1=0.2, 10=0.161, 50=0.141, 100=0.133, 1000=0.109, 10000=0.088 (USD); Value: 2.7 nH; Supplier 1: Mouser; Supplier Part Number 1: 81-LQG15WH2N7B02D; Supplier 2: Digikey; Supplier Part Number 2: 490-LQG15WH2N7B02DDKR-ND; Supplier 3: Digikey; Supplier Part Number 3: 490-LQG15WH2N7B02DCT-ND
footprint INDC1005X06N (Chip Inductor, 2-Leads, Body 1.00x0.50mm, IPC Medium Density)
pins: 1, 2

## LQG15WH3N5B02D
designator L?, comment 3.5 nH
Inductor Chip 3.5nH 0.1nH Tolerance 2-Pin 0402 Paper T/R; Manufacturer: Murata; Manufacturer Part Number: LQG15WH3N5B02D; Supplier: Mouser; Supplier Part Number: 81-LQG15WH3N5B02D; RoHS: Yes; Category: Fixed Inductors; Stock: 9594; Pricing: 1=0.24, 10=0.187, 50=0.187, 100=0.146, 1000=0.113, 10000=0.09 (USD); Supplier 1: Mouser; Supplier Part Number 1: 81-LQG15WH3N5B02D; Supplier 2: Farnell; Supplier Part Number 2: 3639288; Supplier 3: Farnell; Supplier Part Number 3: 3639288RL; Value: 3.5 nH
footprint INDC1005X06N (Chip Inductor, 2-Leads, Body 1.00x0.50mm, IPC Medium Density)
pins: 1, 2

## LQG18HN2N2S00D
designator L?, comment 2.2nH
FIXED IND 2.2NH 500MA 100 MOHM; Manufacturer: Murata; Manufacturer Part Number: LQG18HN2N2S00D; Core Material: Air; DC Resistance (DCR): 100mR; Self Resonant Frequency: 6GHz; Q Factor: 12; Shielding: Unshielded; Test Frequency: 100MHz; Supplier 1: Digi-Key; Supplier Part Number 1: 490-1102-1-ND; RoHS: Yes; Category: Fixed Inductors; Stock 1: 2860; Pricing 1: 1=0.19000, 10=0.16800, 25=0.14920, 50=0.12680, 100=0.11190, 250=0.10256, 500=0.09326, 1000=0.07833 (USD); Mount: Surface Mount; Case/Package: 0603; Number of Pins: 2; Case Code (Metric): 1608; Case Code (Imperial): 0603; Min Operating Temperature: -40°C; Max Operating Temperature: 85°C; Inductance: 2.2nH; Max DC Current: 500mA; Packaging: Tape and Reel; Package Quantity: 4000; Current Rating: 500mA; Termination: SMD/SMT; DC Current: 500mA; Length: 0.063inch; Width: 0.031inch; Height: 0.8mm; Height - Seated (Max): 0.037inch; Depth: 0.95mm; Radiation Hardening: No; REACH SVHC: No SVHC; Lead Free: Lead Free; Military Standard: Not; ComponentLink1URL: https://datasheet.ciiva.com/11801/0900766b80f1087c-11801452.pdf?src-supplier=RSComponents; ComponentLink1Description: https://datasheet.ciiva.com/11801/0900766b80f1087c-11801452.pdf?src-supplier=RSComponents; ComponentLink2URL: https://datasheet.ciiva.com/5740/5102-5740800.pdf?src-supplier=Farnell; ComponentLink2Description: https://datasheet.ciiva.com/5740/5102-5740800.pdf?src-supplier=Farnell; ComponentLink3URL: https://datasheet.ciiva.com/1040/l0075s0083lqg18h-1040340.pdf?src-supplier=Digi-Key; ComponentLink3Description: https://datasheet.ciiva.com/1040/l0075s0083lqg18h-1040340.pdf?src-supplier=Digi-Key; ComponentLink4URL: https://datasheet.ciiva.com/8002/5102-8002583.pdf?src-supplier=Element14; ComponentLink4Description: https://datasheet.ciiva.com/8002/5102-8002583.pdf?src-supplier=Element14; ComponentLink5URL: https://datasheet.ciiva.com/1040/l0075s0083lqg18h-1040339.pdf?src-supplier=Digi-Key; ComponentLink5Description: https://datasheet.ciiva.com/1040/l0075s0083lqg18h-1040339.pdf?src-supplier=Digi-Key; ComponentLink6URL: https://datasheet.ciiva.com/1040/l0075s0083lqg18h-1040341.pdf?src-supplier=Digi-Key; ComponentLink6Description: https://datasheet.ciiva.com/1040/l0075s0083lqg18h-1040341.pdf?src-supplier=Digi-Key; ComponentLink7URL: https://datasheet.ciiva.com/8002/5102-8002585.pdf?src-supplier=Element14; ComponentLink7Description: https://datasheet.ciiva.com/8002/5102-8002585.pdf?src-supplier=Element14; ComponentLink8URL: https://datasheet.ciiva.com/17279/l0075s0083lqg18h-17279100.pdf?src-supplier=Avnet+Europe; ComponentLink8Description: https://datasheet.ciiva.com/17279/l0075s0083lqg18h-17279100.pdf?src-supplier=Avnet+Europe; ComponentLink9URL: https://datasheet.ciiva.com/5740/5102-5740799.pdf?src-supplier=Farnell; ComponentLink9Description: https://datasheet.ciiva.com/5740/5102-5740799.pdf?src-supplier=Farnell
footprint INDC1608X10N (Chip Inductor, 2-Leads, Body 1.60x0.80mm, IPC Medium Density)
pins: 1, 2

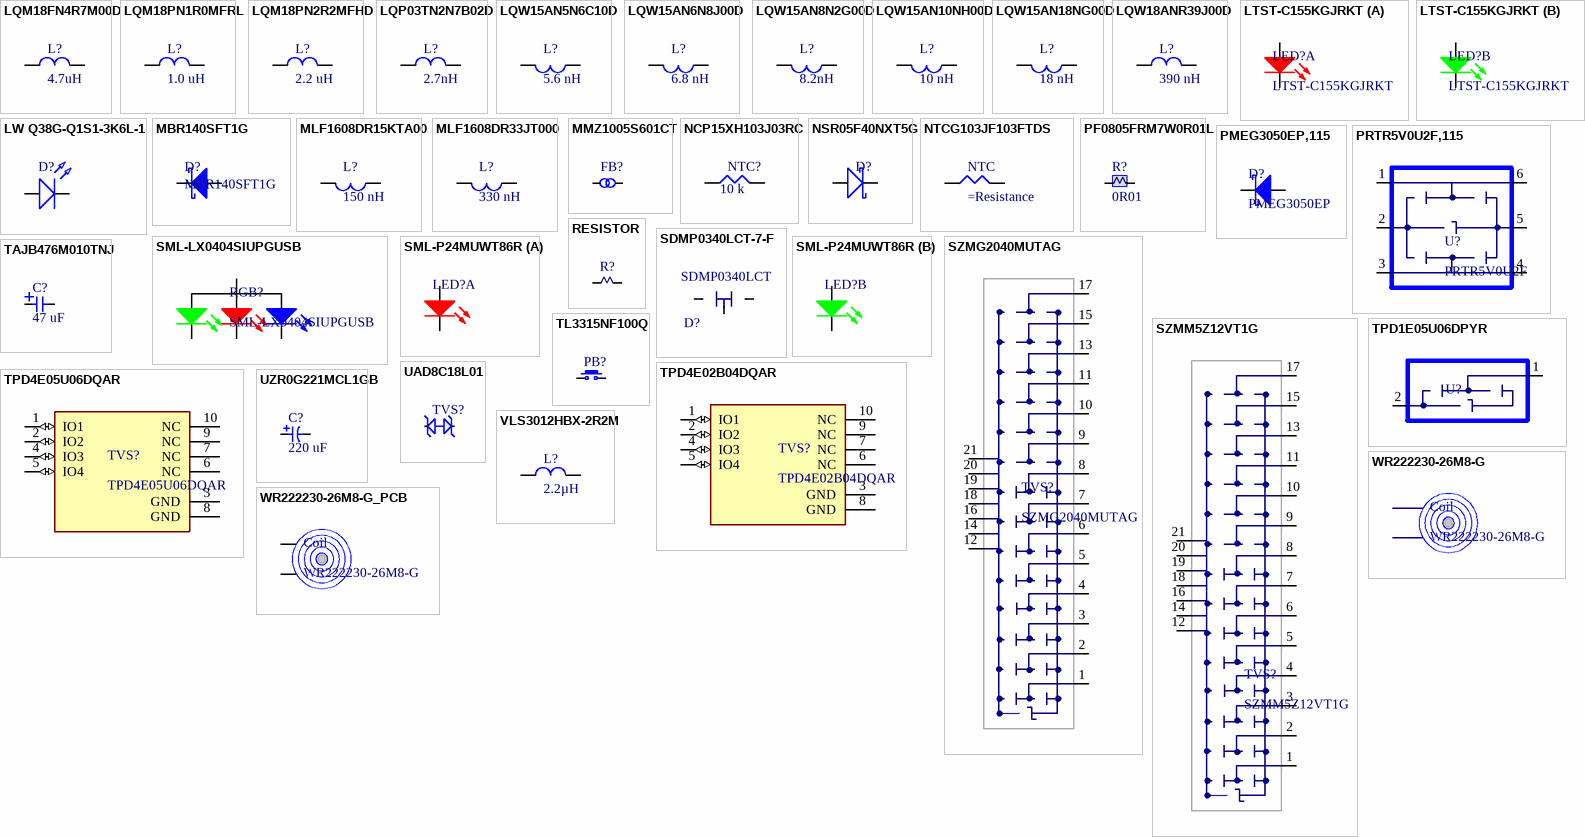
[diagram p6: symbols LQM18FN4R7M00D to WR222230-26M8-G_PCB]

## LQM18FN4R7M00D
designator L?, comment 4.7uH
Inductor Power Chip Shielded Multi-Layer 4.7uH 20% 1MHz Ferrite 0.08A 0.78Ohm DCR 0603 T/R; Manufacturer: Murata; Manufacturer Part Number: LQM18FN4R7M00D; Manufacturer Lifecycle Status: ACTIVE; Self Resonant Frequency: 50MHz; DC Resistance (DCR): 600mR; Current Rating: 80mA; Average Rectified Current: 500mA; Element Configuration: Single; Forward Voltage: 460mV; Max Forward Surge Current (Ifsm): 10A; Max Junction Temperature (Tj): 150°C; Max Power Dissipation: 1.3W; Max Repetitive Reverse Voltage (Vrrm): 40V; Max Reverse Leakage Current: 15µA; Number of Elements: 1; Peak Reverse Current: 75µA; ESR: 780mΩ; Supplier: Mouser; Supplier Part Number: 81-LQM18FN4R7M00D; RoHS: Yes; Category: Fixed Inductors; Stock: 677; Pricing: 1=0.13, 10=0.11, 50=0.11, 100=0.091, 1000=0.075, 10000=0.06 (USD); Mounting Technology: Surface Mount; Case/Package: 0603; Core Material: Ferrite; Case Code (Metric): 1608; Case Code (Imperial): 0603; Weight: 7.1E-05oz; Min Operating Temperature: -55°C; Max Operating Temperature: 125°C; Tolerance: 20%; Shielding: Shielded; Packaging: Tape and Reel; Value: 4.7uH; Test Frequency: 1MHz; Series: LQM18F; Package Quantity: 1; Saturation Current: 80mA; Max DC Current: 80mA; Termination: SMD/SMT; DC Current: 80mA; Max Current Rating: 80mA; Length: 1.6mm; Width: 0.031inch; Height: 0.8mm; Height - Seated (Max): 0.035inch; Depth: 0.9mm; RoHS Compliant: Yes; Military Standard: Not; Lead Free: Lead Free; ComponentLink1URL: https://datasheet.ciiva.com/30489/0900766b812560c4-30489024.pdf?src-supplier=Rs; ComponentLink1Description: https://datasheet.ciiva.com/30489/0900766b812560c4-30489024.pdf?src-supplier=Rs; ComponentLink2URL: https://datasheet.ciiva.com/1039/l0075s0097lqm18f-1039394.pdf?src-supplier=Digikey; ComponentLink2Description: https://datasheet.ciiva.com/1039/l0075s0097lqm18f-1039394.pdf?src-supplier=Digikey; ComponentLink3URL: https://datasheet.ciiva.com/1039/l0075s0097lqm18f-1039393.pdf?src-supplier=Digikey; ComponentLink3Description: https://datasheet.ciiva.com/1039/l0075s0097lqm18f-1039393.pdf?src-supplier=Digikey; ComponentLink4URL: https://datasheet.ciiva.com/1039/l0075s0097lqm18f-1039395.pdf?src-supplier=Digikey; ComponentLink4Description: https://datasheet.ciiva.com/1039/l0075s0097lqm18f-1039395.pdf?src-supplier=Digikey; ComponentLink5URL: https://datasheet.ciiva.com/3082/l0075s0097lqm18f-3082197.pdf?src-supplier=Avnet; ComponentLink5Description: https://datasheet.ciiva.com/3082/l0075s0097lqm18f-3082197.pdf?src-supplier=Avnet; ComponentLink6URL: https://datasheet.ciiva.com/16390/l0075s0097lqm18f-16390346.pdf?src-supplier=Future+Electronics; ComponentLink6Description: https://datasheet.ciiva.com/16390/l0075s0097lqm18f-16390346.pdf?src-supplier=Future+Electronics; Supplier 1: Mouser; Supplier Part Number 1: 81-LQM18FN4R7M00D; Supplier 2: Digikey; Supplier Part Number 2: 490-4024-1-ND; Supplier 3: Digikey; Supplier Part Number 3: 490-4024-6-ND; China RoHS: Compliant; Contact Plating: Tin; Forward Current: 500mA; Lifecycle Status: Production; Max Output current: 500mA; Max Reverse Voltage (DC): 40V; Max Surge Current: 10A; Min Breakdown Voltage: 40V; Pins: 2; Number of Terminals: 2; Peak Non-Repetitive Surge Current: 10A; Radiation Hardening: No; REACH SVHC: Yes; Reverse Standoff Voltage: 40V; Reverse Voltage: 40V; Schedule B: 8541100070, 8541100070|8541100070|8541100070|8541100070|8541100070; ComponentLink7URL: https://datasheet.octopart.com:443/NSR05F40NXT5G-ON-Semiconductor-datasheet-94104276.pdf?src-supplier=JRH+Electronics; ComponentLink7Description: https://datasheet.octopart.com:443/NSR05F40NXT5G-ON-Semiconductor-datasheet-94104276.pdf?src-supplier=JRH+Electronics; ComponentLink8URL: https://datasheet.octopart.com:443/NSR05F40NXT5G-onsemi-datasheet-180967270.pdf?src-supplier=IHS; ComponentLink8Description: https://datasheet.octopart.com:443/NSR05F40NXT5G-onsemi-datasheet-180967270.pdf?src-supplier=IHS; ComponentLink9URL: https://sigma.octopart.com:443/142493867/technical_drawing/ON-Semiconductor-NSR05F40NXT5G.pdf?src-supplier=Upverter; ComponentLink9Description: https://sigma.octopart.com:443/142493867/technical_drawing/ON-Semiconductor-NSR05F40NXT5G.pdf?src-supplier=Upverter; ComponentLink10URL: https://datasheet.octopart.com:443/NSR05F40NXT5G-ON-Semiconductor-datasheet-37177440.pdf?src-supplier=Future+Electronics; ComponentLink10Description: https://datasheet.octopart.com:443/NSR05F40NXT5G-ON-Semiconductor-datasheet-37177440.pdf?src-supplier=Future+Electronics; ComponentLink11URL: https://datasheet.octopart.com:443/NSR05F40NXT5G-ON-Semiconductor-datasheet-11745561.pdf?src-supplier=element14+APAC; ComponentLink11Description: https://datasheet.octopart.com:443/NSR05F40NXT5G-ON-Semiconductor-datasheet-11745561.pdf?src-supplier=element14+APAC; ComponentLink12URL: https://datasheet.octopart.com:443/NSR05F40NXT5G-onsemi-datasheet-157596273.pdf?src-supplier=TME; ComponentLink12Description: https://datasheet.octopart.com:443/NSR05F40NXT5G-onsemi-datasheet-157596273.pdf?src-supplier=TME; ComponentLink13URL: http://sigma.octopart.com:80/150628044/rohs_statement/ON-Semiconductor-NSR05F40NXT5G.pdf?src-supplier=Compliance+Statements; ComponentLink13Description: http://sigma.octopart.com:80/150628044/rohs_statement/ON-Semiconductor-NSR05F40NXT5G.pdf?src-supplier=Compliance+Statements; ComponentLink14URL: http://sigma.octopart.com:80/reach_statement/ON-Semiconductor-company-79.pdf?src-supplier=Compliance+Statements; ComponentLink14Description: http://sigma.octopart.com:80/reach_statement/ON-Semiconductor-company-79.pdf?src-supplier=Compliance+Statements; ComponentLink15URL: https://octopart.com:443/opatz8j6/c1?t=Uq4oP0XYW20rA7GHSBTJXxRF7eBdr4oxj12W_Ow5ZQAQn3aEDntsR0v86sH67Y1VYL5Qd9r7fRzpz2SYouYyA9JWBfabzTk58wY7bKwJhLgZjmWKK4ZrC-dHOp6ai5rBi6r7DXU3w6lacVIfvaDn2nRF9UvHTuHHr9E3jzJFHL2pmpzCgrd95MfAU6WRjEqPrH4FXmi5Pb5vezZnW2ixtA-n7Il4BdWyE0xwS-HrM7RWY8bZfc2VlpjgXKB69n0rSfU3KsfeR3bp8yru8gdBl9cDCMeIg9t034yDtaHrjWpzFh7BGxEtGBfDY3iFXfrKSjB-Z7YETzzcCTzQSl0QWI7OlnwEF9Yev97QIn5lCD4&src-supplier=Compliance+Statements; ComponentLink15Description: https://octopart.com:443/opatz8j6/c1?t=Uq4oP0XYW20rA7GHSBTJXxRF7eBdr4oxj12W_Ow5ZQAQn3aEDntsR0v86sH67Y1VYL5Qd9r7fRzpz2SYouYyA9JWBfabzTk58wY7bKwJhLgZjmWKK4ZrC-dHOp6ai5rBi6r7DXU3w6lacVIfvaDn2nRF9UvHTuHHr9E3jzJFHL2pmpzCgrd95MfAU6WRjEqPrH4FXmi5Pb5vezZnW2ixtA-n7Il4BdWyE0xwS-HrM7RWY8bZfc2VlpjgXKB69n0rSfU3KsfeR3bp8yru8gdBl9cDCMeIg9t034yDtaHrjWpzFh7BGxEtGBfDY3iFXfrKSjB-Z7YETzzcCTzQSl0QWI7OlnwEF9Yev97QIn5lCD4&src-supplier=Compliance+Statements; ComponentLink16URL: https://octopart.com:443/opatz8j6/c1?t=tOMwwjJdKrMCwwp9xDXBgZ8DJoU_ElaTzUGOgd_zZExvTTC0p2NYJW3NlBnhz5vf_HXY9LJ17f1o9pBU_tcUnujW_Yxlprmd2-sSoR96ke0Q8YbgF19hBsAJQWJxEiKYx35u9p3RsTvb0HgNXHPMjTb1dZ8WyWhX8zQvkz3pewxX8C7MxnfqoNUS5V31fEqnYepoV_6IM_4K9PSSvd1Oj8BtQ1Cn5zO6iYOB9Eq_KnshKwZS0MVEEWCWsRMCFOTvi-Nc5U63y5iUW2btnkkl7e38_9u1deLWq8gsS2jWLNyNz5NsbtUkrAQjDqhF1ZfhZmjirHTwNQnQ7j0N6RbRGNLHDdWnOo0xcrVv93vy-P5A&src-supplier=Compliance+Statements; ComponentLink16Description: https://octopart.com:443/opatz8j6/c1?t=tOMwwjJdKrMCwwp9xDXBgZ8DJoU_ElaTzUGOgd_zZExvTTC0p2NYJW3NlBnhz5vf_HXY9LJ17f1o9pBU_tcUnujW_Yxlprmd2-sSoR96ke0Q8YbgF19hBsAJQWJxEiKYx35u9p3RsTvb0HgNXHPMjTb1dZ8WyWhX8zQvkz3pewxX8C7MxnfqoNUS5V31fEqnYepoV_6IM_4K9PSSvd1Oj8BtQ1Cn5zO6iYOB9Eq_KnshKwZS0MVEEWCWsRMCFOTvi-Nc5U63y5iUW2btnkkl7e38_9u1deLWq8gsS2jWLNyNz5NsbtUkrAQjDqhF1ZfhZmjirHTwNQnQ7j0N6RbRGNLHDdWnOo0xcrVv93vy-P5A&src-supplier=Compliance+Statements; Number of Circuits: 1; RMS Current (Irms): 80mA; ComponentLink17URL: https://datasheet.octopart.com:443/LQM18FN4R7M00D-Murata-datasheet-11731136.pdf?src-supplier=_legacy+Avnet; ComponentLink17Description: https://datasheet.octopart.com:443/LQM18FN4R7M00D-Murata-datasheet-11731136.pdf?src-supplier=_legacy+Avnet; ComponentLink18URL: https://datasheet.octopart.com:443/LQM18FN4R7M00D-Murata-datasheet-113139558.pdf?src-supplier=Ciiva; ComponentLink18Description: https://datasheet.octopart.com:443/LQM18FN4R7M00D-Murata-datasheet-113139558.pdf?src-supplier=Ciiva; ComponentLink19URL: https://datasheet.octopart.com:443/LQM18FN4R7M00D-Murata-datasheet-141287866.pdf?src-supplier=Ciiva; ComponentLink19Description: https://datasheet.octopart.com:443/LQM18FN4R7M00D-Murata-datasheet-141287866.pdf?src-supplier=Ciiva; ComponentLink20URL: https://datasheet.octopart.com:443/LQM18FN4R7M00D-Murata-datasheet-140714244.pdf?src-supplier=Ciiva; ComponentLink20Description: https://datasheet.octopart.com:443/LQM18FN4R7M00D-Murata-datasheet-140714244.pdf?src-supplier=Ciiva; ComponentLink21URL: https://datasheet.octopart.com:443/LQM18FN4R7M00D-Murata-datasheet-8328914.pdf?src-supplier=Future+Electronics; ComponentLink21Description: https://datasheet.octopart.com:443/LQM18FN4R7M00D-Murata-datasheet-8328914.pdf?src-supplier=Future+Electronics; ComponentLink22URL: https://datasheet.octopart.com:443/LQM18FN4R7M00D-Murata-datasheet-44660682.pdf?src-supplier=Future+Electronics; ComponentLink22Description: https://datasheet.octopart.com:443/LQM18FN4R7M00D-Murata-datasheet-44660682.pdf?src-supplier=Future+Electronics; ComponentLink23URL: https://datasheet.octopart.com:443/LQM18FN4R7M00D-Murata-datasheet-142045928.pdf?src-supplier=Arrow.cn; ComponentLink23Description: https://datasheet.octopart.com:443/LQM18FN4R7M00D-Murata-datasheet-142045928.pdf?src-supplier=Arrow.cn; ComponentLink24URL: https://datasheet.octopart.com:443/LQM18FN4R7M00D-Murata-datasheet-166300070.pdf?src-supplier=Arrow.cn; ComponentLink24Description: https://datasheet.octopart.com:443/LQM18FN4R7M00D-Murata-datasheet-166300070.pdf?src-supplier=Arrow.cn; ComponentLink25URL: https://datasheet.octopart.com:443/LQM18FN4R7M00D-Murata-datasheet-145450482.pdf?src-supplier=Geoflip; ComponentLink25Description: https://datasheet.octopart.com:443/LQM18FN4R7M00D-Murata-datasheet-145450482.pdf?src-supplier=Geoflip; ComponentLink26URL: https://datasheet.octopart.com:443/LQM18FN4R7M00D-Murata-datasheet-9818.pdf?src-supplier=DigiKey; ComponentLink26Description: https://datasheet.octopart.com:443/LQM18FN4R7M00D-Murata-datasheet-9818.pdf?src-supplier=DigiKey; ComponentLink27URL: https://datasheet.octopart.com/LQM18FN4R7M00D-Murata-datasheet-14392860.pdf; ComponentLink27Description: https://datasheet.octopart.com/LQM18FN4R7M00D-Murata-datasheet-14392860.pdf; ComponentLink28URL: http://sigma.octopart.com:80/reach_statement/Murata-company-16.pdf?src-supplier=Compliance+Statements; ComponentLink28Description: http://sigma.octopart.com:80/reach_statement/Murata-company-16.pdf?src-supplier=Compliance+Statements
footprint INDC1608X09N (Chip Inductor, 2-Leads, Body 1.60x0.80mm, IPC Medium Density)
pins: 1, 2

## LQM18PN1R0MFRL
designator L?, comment 1.0 uH
FIXED IND 1UH 950MA 200 MOHM SMD; Manufacturer: Murata Electronics North America; Manufacturer Part Number: LQM18PN1R0MFRL; Type: Multilayer; Material - Core: Ferrite; Inductance: 1µH; Tolerance: ±20%; Shielding: Shielded; DC Resistance (DCR): 250 mOhm Max; Frequency - Self Resonant: 100MHz; Frequency - Test: 1MHz; Supplier 1: Digi-Key; Supplier Part Number 1: 490-11713-6-ND; RoHS: RoHS Compliant; Category: Inductors, Coils, Chokes; Stock 1: 7955; Pricing 1: 1=0.38, 10=0.341, 25=0.3032, 50=0.2654, 100=0.2464, 250=0.22748, 500=0.2161, 750=0.19715, 1000=0.1744 (EUR); Packaging: Digi-Reel®; Part Status: Active; Current Rating: 950mA; Current - Saturation: -; Q @ Freq: -; Ratings: -; Operating Temperature: -40°C ~ 85°C; Mounting Type: Surface Mount; Package / Case: 0603 (1608 Metric); Size / Dimension: 0.063" L x 0.031" W (1.60mm x 0.80mm); Height - Seated (Max): 0.037" (0.95mm); ComponentLink1URL: http://www.murata.com/~/media/webrenewal/support/library/catalog/products/inductor/chip/o05e.ashx; ComponentLink1Description: http://www.murata.com/~/media/webrenewal/support/library/catalog/products/inductor/chip/o05e.ashx; Value: 1.0 uH
footprint INDC1608X09N (Chip Inductor, 2-Leads, Body 1.60x0.80mm, IPC Medium Density)
signal-integrity model Model Name (Model Description)
pins: 1, 2

## LQM18PN2R2MFHD
designator L?, comment 2.2 uH
FIXED IND 2.2UH 700MA 375 MOHM; Manufacturer: Murata Electronics North America; Manufacturer Part Number: LQM18PN2R2MFHD; Type: Multilayer; Material - Core: Ferrite; Inductance: 2.2µH; Tolerance: ±20%; Current - Saturation: 300mA; Shielding: Unshielded; DC Resistance (DCR): 475 mOhm Max; Frequency - Self Resonant: 80MHz; Frequency - Test: 1MHz; Supplier 1: Digi-Key; Supplier Part Number 1: 490-9571-6-ND; RoHS: RoHS Compliant; Category: Inductors, Coils, Chokes; Stock 1: 6153; Pricing 1: 1=0.44, 10=0.393, 25=0.3492, 50=0.3058, 100=0.2838, 250=0.26196, 500=0.24886, 750=0.22703, 1000=0.20083 (EUR); Packaging: Digi-Reel®; Part Status: Active; Current Rating: 700mA; Q @ Freq: -; Ratings: -; Operating Temperature: -40°C ~ 85°C; Mounting Type: Surface Mount; Package / Case: 0603 (1608 Metric); Size / Dimension: 0.063" L x 0.031" W (1.60mm x 0.80mm); Height - Seated (Max): 0.030" (0.75mm); ComponentLink1URL: http://www.murata.com/~/media/webrenewal/support/library/catalog/products/inductor/chip/o05e.ashx; ComponentLink1Description: http://www.murata.com/~/media/webrenewal/support/library/catalog/products/inductor/chip/o05e.ashx; Value: 2.2 uH
footprint INDC1608X09N (Chip Inductor, 2-Leads, Body 1.60x0.80mm, IPC Medium Density)
signal-integrity model Model Name (Model Description)
pins: 1, 2